# Altium footprint library RLC.PcbLib: 151 footprints (part 2 of 10)
Each footprint in its own frame and in the unit in brackets; x right, y up, seen from the top. Pads: shape width x height; smd on the part's side, far side on the other; paste and mask are expansions set on the pad; w line width, h text height; cw(c..) or ccw(c..) is an arc to the next point about the centre after c.
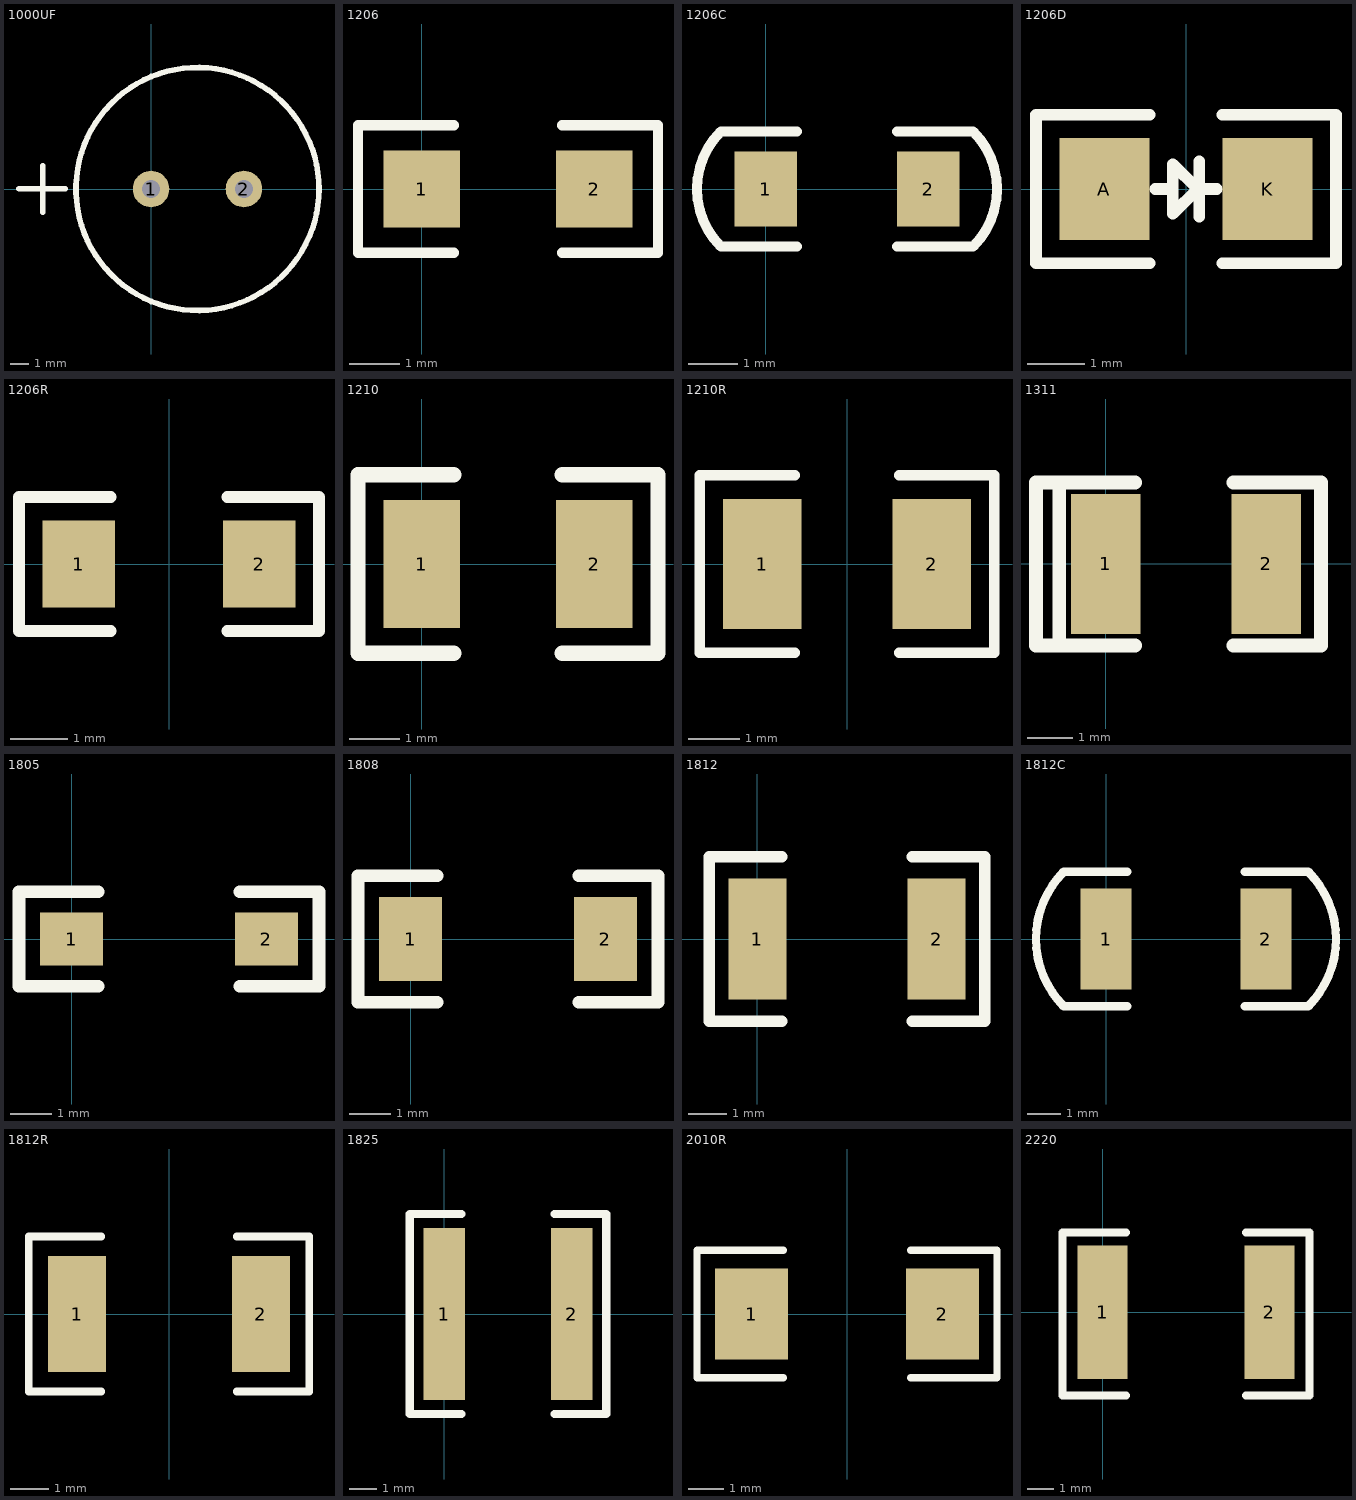
[diagram p1: the footprints below, top view; thin cyan lines are the x and y axes]

## 1000UF [mm]
pads (2):
  round 2 hole 1: 1(0,0) 2(5.08,0)
Top Overlay:
  circle w0.305: c2.54,0 r6.65
  lines w0.305: -7.227,0.025 -4.687,0.025 ; -5.927,-1.27 -5.927,1.27

## 1206 [mil]
pads (2):
  rect 60x60 smd: 1(0,0) 2(135,0)
Top Overlay:
  lines w8: 25,-50 -50,-50 -50,50 25,50 ; 110,-50 185,-50 185,50 110,50

## 1206C [mil]
pads (2):
  rect 50x60 smd: 1(0,0) 2(130,0)
Top Overlay:
  lines w8: 25,-46 -36,-46 cw(c10,0) -36,46 25,46 ; 105,-46 166,-46 ccw(c120,0) 166,46 105,46

## 1206D [mil]
pads (2):
  rect 62x70 smd: A(-56,0) K(56,0)
Top Overlay:
  lines w8: -25,-51 -103,-51 -103,51 -25,51 ; -21,0 -9,0 ; 9,-19 9,19 ; 9,0 21,0 ; 25,-51 103,-51 103,51 25,51 ; -9,-17 8,0 -9,17 -9,-17

## 1206R [mil]
pads (2):
  rect 50x60 smd: 1(-62,0) 2(62,0)
Top Overlay:
  lines w8: -40,-46 -103,-46 -103,46 -40,46 ; 40,-46 103,-46 103,46 40,46

## 1210 [mil]
pads (2):
  rect 60x100 smd: 1(0,0) 2(135,0)
Top Overlay:
  lines w12: 25,-70 -50,-70 -50,70 25,70 ; 110,-70 185,-70 185,70 110,70

## 1210R [mil]
pads (2):
  rect 60x100 smd: 1(-65,0) 2(65,0)
Top Overlay:
  lines w8: -40,-68 -113,-68 -113,68 -40,68 ; 40,-68 113,-68 113,68 40,68

## 1311 [mil]
pads (2):
  rect 60x120 smd: 1(0,0) 2(138,0)
Top Overlay:
  lines w11.81: -60,-70 -60,70 ; -40,-70 -40,70
  lines w12: -60,-70 25,-70 ; -60,70 25,70 ; 110,-70 185,-70 185,70 110,70

## 1805 [mil]
pads (2):
  rect 60x50 smd: 1(0,0) 2(185,0)
Top Overlay:
  lines w12: 25,-45 -50,-45 -50,45 25,45 ; 160,-45 235,-45 235,45 160,45

## 1808 [mil]
pads (2):
  rect 60x80 smd: 1(0,0) 2(185,0)
Top Overlay:
  lines w12: 25,-60 -50,-60 -50,60 25,60 ; 160,-60 235,-60 235,60 160,60

## 1812 [mil]
pads (2):
  rect 60x125 smd: 1(0,0) 2(185,0)
Top Overlay:
  lines w12: 25,-85 -50,-85 -50,85 25,85 ; 160,-85 235,-85 235,85 160,85

## 1812C [mil]
pads (2):
  rect 60x120 smd: 1(0,0) 2(190,0)
Top Overlay:
  lines w10: 25,-80 -50,-80 cw(c30,0) -50,80 25,80 ; 165,-80 240,-80 ccw(c160,0) 240,80 165,80

## 1812R [mil]
pads (2):
  rect 60x120 smd: 1(-95,0) 2(95,0)
Top Overlay:
  lines w8: -70,-80 -145,-80 -145,80 -70,80 ; 70,-80 145,-80 145,80 70,80

## 1825 [mil]
pads (2):
  rect 60x250 smd: 1(0,0) 2(185,0)
Top Overlay:
  lines w12: 25,-145 -50,-145 -50,145 25,145 ; 160,-145 235,-145 235,145 160,145

## 2010R [mil]
pads (2):
  rect 80x100 smd: 1(-105,0) 2(105,0)
Top Overlay:
  lines w8: -70,-70 -165,-70 -165,70 -70,70 ; 70,-70 165,-70 165,70 70,70

## 2220 [mil]
pads (2):
  rect 75x200 smd: 1(0,0) 2(250,0)
Top Overlay:
  lines w12: 35,-125 -60,-125 -60,120 35,120 ; 215,-125 310,-125 310,120 215,120